# Altium integrated library ON Semi Signal Management Signal Switches.IntLib: 212 symbols (part 5 of 6)
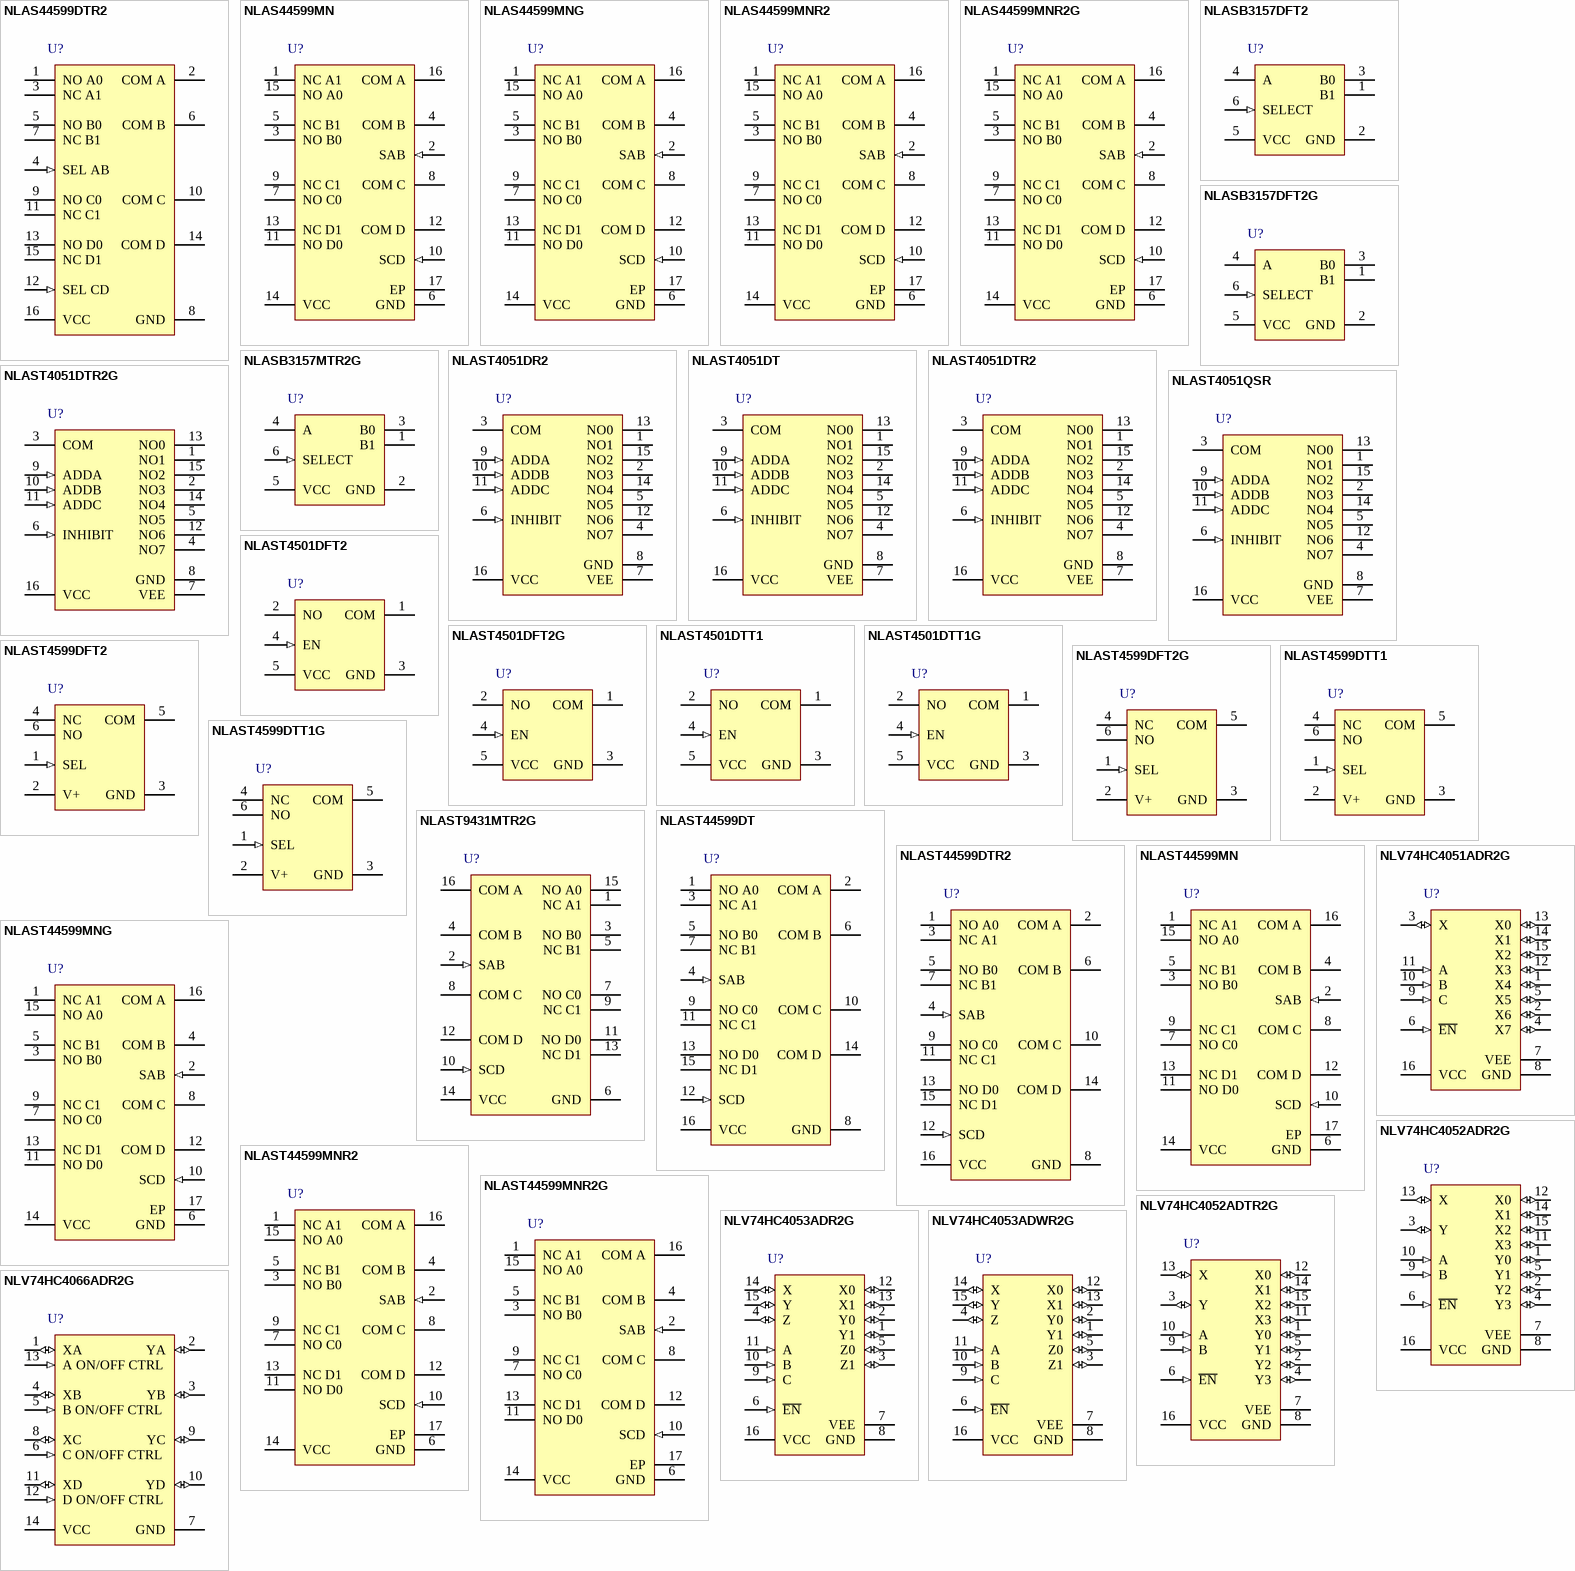
[diagram p10: symbols NLAS44599DTR2 to NLV74HC4066ADR2G]

## NLASB3157DFT2
designator U?
SPDT, 3 Ohm RON Switch, 1.65 to 5.5 V, -55 to 125 degC, 6-Pin SC-88, Tape and Reel; Manufacturer: On Semiconductor; PartNumber: NLASB3157DFT2; Icc Max (uA): 10; VCC Max (V): 5.5; VCC Min (V): 1.65; DatasheetVersion: Rev. 13; PackageVersion: Rev. Y, 12/2012; PackageReference: SC-88-6-419B-02; PackageDescription: 6-Pin Small Outline Transistor, Body 2 x 1.25 mm, Pitch 0.65 mm; Supplier 1: Digi-Key; Supplier Part Number 1: NLASB3157DFT2OSTR-ND; Supplier 2: Digi-Key; Supplier Part Number 2: NLASB3157DFT2OSCT-ND; Packing: Tape and Reel; RoHS: FALSE; Mounting Technology: Surface Mount; ComponentLink1Description: Manufacturer URL; ComponentLink1URL: http://www.onsemi.com/; ComponentLink2Description: Datasheet; ComponentLink2URL: http://www.onsemi.cn/pub_link/Collateral/NLASB3157-D.PDF; ComponentLink3Description: Package Specification; ComponentLink3URL: http://www.onsemi.com/pub_link/Collateral/419B-02.PDF
footprint ONSC-SC-88-6-419B-02_V (SOT23, 6-Leads, Body 2.2x1.35mm, Pitch 0.65mm)
pins: 1 B1, 2 GND (power), 3 B0, 4 A, 5 VCC (power), 6 SELECT (in)

## NLASB3157DFT2G
designator U?
SPDT, 3 Ohm RON Switch, 1.65 to 5.5 V, -55 to 125 degC, 6-Pin SC-88, Pb-Free, Tape and Reel; Manufacturer: On Semiconductor; PartNumber: NLASB3157DFT2G; Icc Max (uA): 10; VCC Max (V): 5.5; VCC Min (V): 1.65; DatasheetVersion: Rev. 13; PackageVersion: Rev. Y, 12/2012; PackageReference: SC-88-6-419B-02; PackageDescription: 6-Pin Small Outline Transistor, Body 2 x 1.25 mm, Pitch 0.65 mm; Supplier 1: Digi-Key; Supplier Part Number 1: NLASB3157DFT2GOSTR-ND; Supplier 2: Digi-Key; Supplier Part Number 2: NLASB3157DFT2GOSCT-ND; Supplier 3: Digi-Key; Supplier Part Number 3: NLASB3157DFT2GOSDKR-ND; Supplier 4: Farnell; Supplier Part Number 4: 2414052; Supplier 5: Newark; Supplier Part Number 5: 04R7851; Supplier 6: Newark; Supplier Part Number 6: 88H5054; Supplier 7: Mouser; Supplier Part Number 7: 863-NLASB3157DFT2G; Packing: Tape and Reel; RoHS: TRUE; Mounting Technology: Surface Mount; ComponentLink1Description: Manufacturer URL; ComponentLink1URL: http://www.onsemi.com/; ComponentLink2Description: Datasheet; ComponentLink2URL: http://www.onsemi.cn/pub_link/Collateral/NLASB3157-D.PDF; ComponentLink3Description: Package Specification; ComponentLink3URL: http://www.onsemi.com/pub_link/Collateral/419B-02.PDF
footprint ONSC-SC-88-6-419B-02_V (SOT23, 6-Leads, Body 2.2x1.35mm, Pitch 0.65mm)
pins: 1 B1, 2 GND (power), 3 B0, 4 A, 5 VCC (power), 6 SELECT (in)

## NLASB3157MTR2G
designator U?
SPDT, 3 Ohm RON Switch, 1.65 to 5.5 V, -55 to 125 degC, 6-Pin WDFN, Pb-Free, Tape and Reel; Manufacturer: On Semiconductor; PartNumber: NLASB3157MTR2G; Icc Max (uA): 10; VCC Max (V): 5.5; VCC Min (V): 1.65; DatasheetVersion: Rev. 13; PackageVersion: Rev. D, 08/2013; PackageReference: WDFN-6-506AS-01; PackageDescription: 6-Pin Small Outline No-Lead, Body 1.2 x 1 mm, Pitch 0.4 mm; Supplier 1: Digi-Key; Supplier Part Number 1: NLASB3157MTR2GOSTR-ND; Supplier 2: Digi-Key; Supplier Part Number 2: NLASB3157MTR2GOSCT-ND; Supplier 3: Digi-Key; Supplier Part Number 3: NLASB3157MTR2GOSDKR-ND; Supplier 4: Newark; Supplier Part Number 4: 02M9870; Supplier 5: Mouser; Supplier Part Number 5: 863-NLASB3157MTR2G; Packing: Tape and Reel; RoHS: TRUE; Mounting Technology: Surface Mount; ComponentLink1Description: Manufacturer URL; ComponentLink1URL: http://www.onsemi.com/; ComponentLink2Description: Datasheet; ComponentLink2URL: http://www.onsemi.cn/pub_link/Collateral/NLASB3157-D.PDF; ComponentLink3Description: Package Specification; ComponentLink3URL: http://www.onsemi.cn/pub_link/Collateral/506AS.PDF
footprint ONSC-WDFN-6-506AS-01_V (SON, 6-Leads, Body 1.2x1mm, Pitch 0.4mm)
pins: 1 B1, 2 GND (power), 3 B0, 4 A, 5 VCC (power), 6 SELECT (in)

## NLAST4051DR2
designator U?
Analog Multiplexer / Demultiplexer, TTL Compatible, Single-Pole, 8-Position Plus Common Off, 2.5 to 5.5 V, -55 to 125 degC, 16-Pin SOIC, Tape and Reel; Manufacturer: On Semiconductor; PartNumber: NLAST4051DR2; Icc Max (uA): 80; VCC Max (V): 5.5; VCC Min (V): 2.5; DatasheetVersion: Rev. 4; PackageVersion: Rev. J; PackageReference: SOIC-16-751B-05_J; PackageDescription: 16-Pin Small Outline Integrated Circuit, Body 9.9 x 3.9 mm, Pitch 1.27 mm; Supplier 1: Digi-Key; Supplier Part Number 1: NLAST4051DR2OSTR-ND; Supplier 2: Digi-Key; Supplier Part Number 2: NLAST4051DR2OSCT-ND; Supplier 3: Digi-Key; Supplier Part Number 3: NLAST4051DR2OSDKR-ND; Supplier 4: Mouser; Supplier Part Number 4: N/A; Packing: Tape and Reel; RoHS: FALSE; Mounting Technology: Surface Mount; ComponentLink1Description: Manufacturer URL; ComponentLink1URL: http://www.onsemi.com/; ComponentLink2Description: Datasheet; ComponentLink2URL: http://www.onsemi.com/pub_link/Collateral/NLAST4051-D.PDF; ComponentLink3Description: Package Specification; ComponentLink3URL: http://www.onsemi.com/pub_link/Collateral/MC74AC161-D.PDF
footprint ONSC-SOIC-16-751B-05_J_N (SOIC, 16-Leads, Body 10x4mm, Pitch 1.27mm, IPC Medium Density)
footprint ONSC-SOIC-16-751B-05_J_L (SOIC, 16-Leads, Body 10x4mm, Pitch 1.27mm, IPC High Density)
footprint ONSC-SOIC-16-751B-05_J_M (SOIC, 16-Leads, Body 10x4mm, Pitch 1.27mm, IPC Low Density)
pins: 1 NO1, 2 NO3, 3 COM, 4 NO7, 5 NO5, 6 INHIBIT (in), 7 VEE (power), 8 GND (power), 9 ADDA (in), 10 ADDB (in), 11 ADDC (in), 12 NO6, 13 NO0, 14 NO4, 15 NO2, 16 VCC (power)

## NLAST4051DT
designator U?
Analog Multiplexer / Demultiplexer, TTL Compatible, Single-Pole, 8-Position Plus Common Off, 2.5 to 5.5 V, -55 to 125 degC, 16-Pin TSSOP, Pb-Free, Tube; Manufacturer: On Semiconductor; PartNumber: NLAST4051DT; Icc Max (uA): 80; VCC Max (V): 5.5; VCC Min (V): 2.5; DatasheetVersion: Rev. 4; PackageVersion: Rev. A, 01/2005; PackageReference: TSSOP-16-948F-01_A; PackageDescription: 16-Pin Small Outline Package, Body 5 x 4.4 mm, Pitch 0.65 mm; Supplier 1: Mouser; Supplier Part Number 1: N/A; Packing: Tube; RoHS: TRUE; Mounting Technology: Surface Mount; ComponentLink1Description: Manufacturer URL; ComponentLink1URL: http://www.onsemi.com/; ComponentLink2Description: Datasheet; ComponentLink2URL: http://www.onsemi.com/pub_link/Collateral/NLAST4051-D.PDF; ComponentLink3Description: Package Specification; ComponentLink3URL: http://www.onsemi.cn/pub_link/Collateral/NB3N508S-D.PDF
footprint ONSC-TSSOP-16-948F-01_A_N (SOP, 16-Leads, Body 5x4.4mm, Pitch 0.65mm, IPC Medium Density)
footprint ONSC-TSSOP-16-948F-01_A_L (SOP, 16-Leads, Body 5x4.4mm, Pitch 0.65mm, IPC High Density)
footprint ONSC-TSSOP-16-948F-01_A_M (SOP, 16-Leads, Body 5x4.4mm, Pitch 0.65mm, IPC Low Density)
pins: 1 NO1, 2 NO3, 3 COM, 4 NO7, 5 NO5, 6 INHIBIT (in), 7 VEE (power), 8 GND (power), 9 ADDA (in), 10 ADDB (in), 11 ADDC (in), 12 NO6, 13 NO0, 14 NO4, 15 NO2, 16 VCC (power)

## NLAST4051DTR2
designator U?
Analog Multiplexer / Demultiplexer, TTL Compatible, Single-Pole, 8-Position Plus Common Off, 2.5 to 5.5 V, -55 to 125 degC, 16-Pin TSSOP, Pb-Free, Tape and Reel; Manufacturer: On Semiconductor; PartNumber: NLAST4051DTR2; Icc Max (uA): 80; VCC Max (V): 5.5; VCC Min (V): 2.5; DatasheetVersion: Rev. 4; PackageVersion: Rev. A, 01/2005; PackageReference: TSSOP-16-948F-01_A; PackageDescription: 16-Pin Small Outline Package, Body 5 x 4.4 mm, Pitch 0.65 mm; Supplier 1: Digi-Key; Supplier Part Number 1: NLAST4051DTR2OSTR-ND; Supplier 2: Digi-Key; Supplier Part Number 2: NLAST4051DTR2OSCT-ND; Supplier 3: Mouser; Supplier Part Number 3: 863-NLAST4051DTR2; Packing: Tape and Reel; RoHS: TRUE; Mounting Technology: Surface Mount; ComponentLink1Description: Manufacturer URL; ComponentLink1URL: http://www.onsemi.com/; ComponentLink2Description: Datasheet; ComponentLink2URL: http://www.onsemi.com/pub_link/Collateral/NLAST4051-D.PDF; ComponentLink3Description: Package Specification; ComponentLink3URL: http://www.onsemi.cn/pub_link/Collateral/NB3N508S-D.PDF
footprint ONSC-TSSOP-16-948F-01_A_N (SOP, 16-Leads, Body 5x4.4mm, Pitch 0.65mm, IPC Medium Density)
footprint ONSC-TSSOP-16-948F-01_A_L (SOP, 16-Leads, Body 5x4.4mm, Pitch 0.65mm, IPC High Density)
footprint ONSC-TSSOP-16-948F-01_A_M (SOP, 16-Leads, Body 5x4.4mm, Pitch 0.65mm, IPC Low Density)
pins: 1 NO1, 2 NO3, 3 COM, 4 NO7, 5 NO5, 6 INHIBIT (in), 7 VEE (power), 8 GND (power), 9 ADDA (in), 10 ADDB (in), 11 ADDC (in), 12 NO6, 13 NO0, 14 NO4, 15 NO2, 16 VCC (power)

## NLAST4051DTR2G
designator U?
Analog Multiplexer / Demultiplexer, TTL Compatible, Single-Pole, 8-Position Plus Common Off, 2.5 to 5.5 V, -55 to 125 degC, 16-Pin TSSOP, Pb-Free, Tape and Reel; Manufacturer: On Semiconductor; PartNumber: NLAST4051DTR2G; Icc Max (uA): 80; VCC Max (V): 5.5; VCC Min (V): 2.5; DatasheetVersion: Rev. 4; PackageVersion: Rev. A, 01/2005; PackageReference: TSSOP-16-948F-01_A; PackageDescription: 16-Pin Small Outline Package, Body 5 x 4.4 mm, Pitch 0.65 mm; Supplier 1: Digi-Key; Supplier Part Number 1: NLAST4051DTR2GOSTR-ND; Supplier 2: Digi-Key; Supplier Part Number 2: NLAST4051DTR2GOSCT-ND; Supplier 3: Digi-Key; Supplier Part Number 3: NLAST4051DTR2GOSDKR-ND; Supplier 4: Mouser; Supplier Part Number 4: 863-NLAST4051DTR2G; Packing: Tape and Reel; RoHS: TRUE; Mounting Technology: Surface Mount; ComponentLink1Description: Manufacturer URL; ComponentLink1URL: http://www.onsemi.com/; ComponentLink2Description: Datasheet; ComponentLink2URL: http://www.onsemi.com/pub_link/Collateral/NLAST4051-D.PDF; ComponentLink3Description: Package Specification; ComponentLink3URL: http://www.onsemi.cn/pub_link/Collateral/NB3N508S-D.PDF
footprint ONSC-TSSOP-16-948F-01_A_N (SOP, 16-Leads, Body 5x4.4mm, Pitch 0.65mm, IPC Medium Density)
footprint ONSC-TSSOP-16-948F-01_A_L (SOP, 16-Leads, Body 5x4.4mm, Pitch 0.65mm, IPC High Density)
footprint ONSC-TSSOP-16-948F-01_A_M (SOP, 16-Leads, Body 5x4.4mm, Pitch 0.65mm, IPC Low Density)
pins: 1 NO1, 2 NO3, 3 COM, 4 NO7, 5 NO5, 6 INHIBIT (in), 7 VEE (power), 8 GND (power), 9 ADDA (in), 10 ADDB (in), 11 ADDC (in), 12 NO6, 13 NO0, 14 NO4, 15 NO2, 16 VCC (power)

## NLAST4051QSR
designator U?
Analog Multiplexer / Demultiplexer, TTL Compatible, Single-Pole, 8-Position Plus Common Off, 2.5 to 5.5 V, -55 to 125 degC, 16-Pin QSOP, Tape and Reel; Manufacturer: On Semiconductor; PartNumber: NLAST4051QSR; Icc Max (uA): 80; VCC Max (V): 5.5; VCC Min (V): 2.5; DatasheetVersion: Rev. 4; PackageVersion: Rev. O; PackageReference: QSOP-16-492-01; PackageDescription: 16-Pin Small Outline Package, Body 4.89 x 3.9 mm, Pitch 0.64 mm; Supplier 1: Digi-Key; Supplier Part Number 1: NLAST4051QSROSTR-ND; Supplier 2: Digi-Key; Supplier Part Number 2: NLAST4051QSROSCT-ND; Supplier 3: Mouser; Supplier Part Number 3: N/A; Packing: Tape and Reel; RoHS: FALSE; Mounting Technology: Surface Mount; ComponentLink1Description: Manufacturer URL; ComponentLink1URL: http://www.onsemi.com/; ComponentLink2Description: Datasheet; ComponentLink2URL: http://www.onsemi.com/pub_link/Collateral/NLAST4051-D.PDF; ComponentLink3Description: Package Specification; ComponentLink3URL: http://www.onsemi.com/pub_link/Collateral/NLAS4051-D.PDF
footprint ONSC-QSOP-16-492-01_O_N (SOP, 16-Leads, Body 5x4mm, Pitch 0.64mm, IPC Medium Density)
footprint ONSC-QSOP-16-492-01_O_L (SOP, 16-Leads, Body 5x4mm, Pitch 0.64mm, IPC High Density)
footprint ONSC-QSOP-16-492-01_O_M (SOP, 16-Leads, Body 5x4mm, Pitch 0.64mm, IPC Low Density)
pins: 1 NO1, 2 NO3, 3 COM, 4 NO7, 5 NO5, 6 INHIBIT (in), 7 VEE (power), 8 GND (power), 9 ADDA (in), 10 ADDB (in), 11 ADDC (in), 12 NO6, 13 NO0, 14 NO4, 15 NO2, 16 VCC (power)

## NLAST4501DFT2
designator U?
Single SPST Analog Switch, 2 to 5.5 V, -55 to 125 degC, 5-Pin SC-88A, Tape and Reel; Manufacturer: On Semiconductor; PartNumber: NLAST4501DFT2; Icc Max (uA): 2; VCC Max (V): 5.5; DatasheetVersion: Rev. 4; PackageVersion: Rev. L, 01/2013; PackageReference: SC-88A-5-419A-02; PackageDescription: 5-Pin Small Outline Transistor, Body 2 x 1.25 mm, Pitch 0.65 mm; Supplier 1: Digi-Key; Supplier Part Number 1: NLAST4501DFT2OS-ND; Packing: Tape and Reel; RoHS: FALSE; VCC Min (V): 2; Mounting Technology: Surface Mount; ComponentLink1Description: Manufacturer URL; ComponentLink1URL: http://www.onsemi.com/; ComponentLink2Description: Datasheet; ComponentLink2URL: http://www.onsemi.com/pub_link/Collateral/NLAST4501-D.PDF; ComponentLink3Description: Package Specification; ComponentLink3URL: http://www.onsemi.cn/pub_link/Collateral/419A-02.PDF
footprint ONSC-SC-88A-5-419A-02_V (SOT23, 5-Leads, Body 2.2x1.35mm, Pitch 0.65mm)
pins: 1 COM, 2 NO, 3 GND (power), 4 EN (in), 5 VCC (power)

## NLAST4501DFT2G
designator U?
Single SPST Analog Switch, 2 to 5.5 V, -55 to 125 degC, 5-Pin SC-88A, Pb-Free, Tape and Reel; Manufacturer: On Semiconductor; PartNumber: NLAST4501DFT2G; Icc Max (uA): 2; VCC Max (V): 5.5; DatasheetVersion: Rev. 4; PackageVersion: Rev. L, 01/2013; PackageReference: SC-88A-5-419A-02; PackageDescription: 5-Pin Small Outline Transistor, Body 2 x 1.25 mm, Pitch 0.65 mm; Supplier 1: Digi-Key; Supplier Part Number 1: NLAST4501DFT2GOSTR-ND; Supplier 2: Digi-Key; Supplier Part Number 2: NLAST4501DFT2GOSCT-ND; Supplier 3: Newark; Supplier Part Number 3: 67H7121; Supplier 4: Mouser; Supplier Part Number 4: 863-NLAST4501DFT2G; Packing: Tape and Reel; RoHS: TRUE; VCC Min (V): 2; Mounting Technology: Surface Mount; ComponentLink1Description: Manufacturer URL; ComponentLink1URL: http://www.onsemi.com/; ComponentLink2Description: Datasheet; ComponentLink2URL: http://www.onsemi.com/pub_link/Collateral/NLAST4501-D.PDF; ComponentLink3Description: Package Specification; ComponentLink3URL: http://www.onsemi.cn/pub_link/Collateral/419A-02.PDF
footprint ONSC-SC-88A-5-419A-02_V (SOT23, 5-Leads, Body 2.2x1.35mm, Pitch 0.65mm)
pins: 1 COM, 2 NO, 3 GND (power), 4 EN (in), 5 VCC (power)

## NLAST4501DTT1
designator U?
Single SPST Analog Switch, 2 to 5.5 V, -55 to 125 degC, 5-Pin TSOP, Tape and Reel; Manufacturer: On Semiconductor; PartNumber: NLAST4501DTT1; Icc Max (uA): 2; VCC Max (V): 5.5; DatasheetVersion: Rev. 4; PackageVersion: Rev. K, 04/2013; PackageReference: TSOP-5-483-02; PackageDescription: 5-Pin Small Outline Package, Body 3 x 1.5 mm, Pitch 0.95 mm; Supplier 1: Digi-Key; Supplier Part Number 1: NLAST4501DTT1OS-ND; Packing: Tape and Reel; RoHS: FALSE; VCC Min (V): 2; Mounting Technology: Surface Mount; ComponentLink1Description: Manufacturer URL; ComponentLink1URL: http://www.onsemi.com/; ComponentLink2Description: Datasheet; ComponentLink2URL: http://www.onsemi.com/pub_link/Collateral/NLAST4501-D.PDF; ComponentLink3Description: Package Specification; ComponentLink3URL: http://www.onsemi.com/pub_link/Collateral/483.PDF
footprint ONSC-TSOP-5-483-02_V (SOP, 5-Leads, Body 3x1.5mm, Pitch 0.95mm)
pins: 1 COM, 2 NO, 3 GND (power), 4 EN (in), 5 VCC (power)

## NLAST4501DTT1G
designator U?
Single SPST Analog Switch, 2 to 5.5 V, -55 to 125 degC, 5-Pin TSOP, Pb-Free, Tape and Reel; Manufacturer: On Semiconductor; PartNumber: NLAST4501DTT1G; Icc Max (uA): 2; VCC Max (V): 5.5; DatasheetVersion: Rev. 4; PackageVersion: Rev. K, 04/2013; PackageReference: TSOP-5-483-02; PackageDescription: 5-Pin Small Outline Package, Body 3 x 1.5 mm, Pitch 0.95 mm; Supplier 1: Digi-Key; Supplier Part Number 1: NLAST4501DTT1GOSTR-ND; Supplier 2: Digi-Key; Supplier Part Number 2: NLAST4501DTT1GOSCT-ND; Supplier 3: Newark; Supplier Part Number 3: 71J6941; Supplier 4: Mouser; Supplier Part Number 4: 863-NLAST4501DTT1G; Packing: Tape and Reel; RoHS: TRUE; VCC Min (V): 2; Mounting Technology: Surface Mount; ComponentLink1Description: Manufacturer URL; ComponentLink1URL: http://www.onsemi.com/; ComponentLink2Description: Datasheet; ComponentLink2URL: http://www.onsemi.com/pub_link/Collateral/NLAST4501-D.PDF; ComponentLink3Description: Package Specification; ComponentLink3URL: http://www.onsemi.com/pub_link/Collateral/483.PDF
footprint ONSC-TSOP-5-483-02_V (SOP, 5-Leads, Body 3x1.5mm, Pitch 0.95mm)
pins: 1 COM, 2 NO, 3 GND (power), 4 EN (in), 5 VCC (power)

## NLAST4599DFT2
designator U?
Low Voltage Single Supply SPDT Analog Switch, 2 to 5.5 V, -55 to 125 degC, 6-Pin SC70, Tape and Reel; Manufacturer: On Semiconductor; PartNumber: NLAST4599DFT2; Icc Max (uA): 2; VCC Max (V): 5.5; DatasheetVersion: Rev. 8; PackageVersion: Rev. W, 01/2006; PackageReference: SC70-6-419B-02_W; PackageDescription: 6-Pin Small Outline Transistor, Body 2 x 1.25 mm, Pitch 0.65 mm; Supplier 1: Digi-Key; Supplier Part Number 1: NLAST4599DFT2OSTR-ND; Supplier 2: Digi-Key; Supplier Part Number 2: NLAST4599DFT2OSCT-ND; Packing: Tape and Reel; RoHS: FALSE; VCC Min (V): 2; Mounting Technology: Surface Mount; ComponentLink1Description: Manufacturer URL; ComponentLink1URL: http://www.onsemi.com/; ComponentLink2Description: Datasheet; ComponentLink2URL: http://www.onsemi.com/pub_link/Collateral/NLAST4599-D.PDF; ComponentLink3Description: Package Specification; ComponentLink3URL: http://www.onsemi.com/pub_link/Collateral/SMF05C-D.PDF
footprint ONSC-SC70-6-419B-02_W_V (SOT23, 6-Leads, Body 2.2x1.35mm, Pitch 0.65mm)
pins: 1 SEL (in), 2 V+ (power), 3 GND (power), 4 NC, 5 COM, 6 NO

## NLAST4599DFT2G
designator U?
Low Voltage Single Supply SPDT Analog Switch, 2 to 5.5 V, -55 to 125 degC, 6-Pin SC70, Pb-Free, Tape and Reel; Manufacturer: On Semiconductor; PartNumber: NLAST4599DFT2G; Icc Max (uA): 2; VCC Max (V): 5.5; DatasheetVersion: Rev. 8; PackageVersion: Rev. W, 01/2006; PackageReference: SC70-6-419B-02_W; PackageDescription: 6-Pin Small Outline Transistor, Body 2 x 1.25 mm, Pitch 0.65 mm; Supplier 1: Digi-Key; Supplier Part Number 1: NLAST4599DFT2GOSTR-ND; Supplier 2: Digi-Key; Supplier Part Number 2: NLAST4599DFT2GOSCT-ND; Supplier 3: Digi-Key; Supplier Part Number 3: NLAST4599DFT2GOSDKR-ND; Supplier 4: Farnell; Supplier Part Number 4: 2318469; Supplier 5: Newark; Supplier Part Number 5: 38X5945; Supplier 6: Newark; Supplier Part Number 6: 90W0798; Supplier 7: Newark; Supplier Part Number 7: 83H7726; Supplier 8: Mouser; Supplier Part Number 8: 863-NLAST4599DFT2G; Packing: Tape and Reel; RoHS: TRUE; VCC Min (V): 2; Mounting Technology: Surface Mount; ComponentLink1Description: Manufacturer URL; ComponentLink1URL: http://www.onsemi.com/; ComponentLink2Description: Datasheet; ComponentLink2URL: http://www.onsemi.com/pub_link/Collateral/NLAST4599-D.PDF; ComponentLink3Description: Package Specification; ComponentLink3URL: http://www.onsemi.com/pub_link/Collateral/SMF05C-D.PDF
footprint ONSC-SC70-6-419B-02_W_V (SOT23, 6-Leads, Body 2.2x1.35mm, Pitch 0.65mm)
pins: 1 SEL (in), 2 V+ (power), 3 GND (power), 4 NC, 5 COM, 6 NO

## NLAST4599DTT1
designator U?
Low Voltage Single Supply SPDT Analog Switch, 2 to 5.5 V, -55 to 125 degC, 6-Pin TSOP, Tape and Reel; Manufacturer: On Semiconductor; PartNumber: NLAST4599DTT1; Icc Max (uA): 2; VCC Max (V): 5.5; DatasheetVersion: Rev. 8; PackageVersion: Rev. T, 02/2008; PackageReference: TSOP-6-318G-02_T; PackageDescription: 6-Pin Small Outline Package, Body 1.5 x 3 mm, Pitch 0.95 mm; Packing: Tape and Reel; RoHS: FALSE; VCC Min (V): 2; Mounting Technology: Surface Mount; ComponentLink1Description: Manufacturer URL; ComponentLink1URL: http://www.onsemi.com/; ComponentLink2Description: Datasheet; ComponentLink2URL: http://www.onsemi.com/pub_link/Collateral/NLAST4599-D.PDF; ComponentLink3Description: Package Specification; ComponentLink3URL: http://www.onsemi.com/pub_link/Collateral/NSS20300MR6T1G-D.PDF
footprint ONSC-TSOP-6-318G-02_T_V (SOP, 6-Leads, Body 3x1.5mm, Pitch 0.95mm)
pins: 1 SEL (in), 2 V+ (power), 3 GND (power), 4 NC, 5 COM, 6 NO

## NLAST4599DTT1G
designator U?
Low Voltage Single Supply SPDT Analog Switch, 2 to 5.5 V, -55 to 125 degC, 6-Pin TSOP, Pb-Free, Tape and Reel; Manufacturer: On Semiconductor; PartNumber: NLAST4599DTT1G; Icc Max (uA): 2; VCC Max (V): 5.5; DatasheetVersion: Rev. 8; PackageVersion: Rev. T, 02/2008; PackageReference: TSOP-6-318G-02_T; PackageDescription: 6-Pin Small Outline Package, Body 1.5 x 3 mm, Pitch 0.95 mm; Supplier 1: Digi-Key; Supplier Part Number 1: NLAST4599DTT1GOSTR-ND; Supplier 2: Digi-Key; Supplier Part Number 2: NLAST4599DTT1GOSCT-ND; Supplier 3: Digi-Key; Supplier Part Number 3: NLAST4599DTT1GOSDKR-ND; Supplier 4: Farnell; Supplier Part Number 4: 2295992; Supplier 5: Newark; Supplier Part Number 5: 26K5050; Supplier 6: Mouser; Supplier Part Number 6: 863-NLAST4599DTT1G; Packing: Tape and Reel; RoHS: TRUE; VCC Min (V): 2; Mounting Technology: Surface Mount; ComponentLink1Description: Manufacturer URL; ComponentLink1URL: http://www.onsemi.com/; ComponentLink2Description: Datasheet; ComponentLink2URL: http://www.onsemi.com/pub_link/Collateral/NLAST4599-D.PDF; ComponentLink3Description: Package Specification; ComponentLink3URL: http://www.onsemi.com/pub_link/Collateral/NSS20300MR6T1G-D.PDF
footprint ONSC-TSOP-6-318G-02_T_V (SOP, 6-Leads, Body 3x1.5mm, Pitch 0.95mm)
pins: 1 SEL (in), 2 V+ (power), 3 GND (power), 4 NC, 5 COM, 6 NO

## NLAST9431MTR2G
designator U?
Low Voltage Single Supply Dual DPDT Analog Switch, 2 to 5.5 V, -55 to 125 degC, 16-Pin WQFN, Pb-Free, Tape and Reel; Manufacturer: On Semiconductor; PartNumber: NLAST9431MTR2G; Icc Max (uA): 8; VCC Max (V): 5.5; VCC Min (V): 2; DatasheetVersion: Rev. 2; PackageVersion: Rev. B, 06/2008; PackageReference: WQFN-16-488AP-01; PackageDescription: 16-Pin Quad Flat No-Lead, Body 1.8 x 2.6 mm, Pitch 0.4 mm; Supplier 1: Digi-Key; Supplier Part Number 1: NLAST9431MTR2GOSTR-ND; Supplier 2: Digi-Key; Supplier Part Number 2: NLAST9431MTR2GOSCT-ND; Supplier 3: Mouser; Supplier Part Number 3: 863-NLAST9431MTR2G; Packing: Tape and Reel; RoHS: TRUE; Mounting Technology: Surface Mount; ComponentLink1Description: Manufacturer URL; ComponentLink1URL: http://www.onsemi.com/; ComponentLink2Description: Datasheet; ComponentLink2URL: http://www.onsemi.com/pub_link/Collateral/NLAST9431-D.PDF; ComponentLink3Description: Package Specification; ComponentLink3URL: http://www.onsemi.cn/pub_link/Collateral/488AP.PDF
footprint ONSC-WQFN-16-488AP-01_V (QFN, 16-Leads, Body 2.6x1.8mm, Pitch 0.4mm)
pins: 1 NC A1, 2 SAB (in), 3 NO B0, 4 COM B, 5 NC B1, 6 GND (power), 7 NO C0, 8 COM C, 9 NC C1, 10 SCD (in), 11 NO D0, 12 COM D, 13 NC D1, 14 VCC (power), 15 NO A0, 16 COM A

## NLAST44599DT
designator U?
Low Voltage Single Supply Dual DPDT Analog Switch, 2 to 5.5 V, -55 to 125 degC, 16-Pin TSSOP, Pb-Free, Tube; Manufacturer: On Semiconductor; PartNumber: NLAST44599DT; Icc Max (uA): 8; VCC Max (V): 5.5; VCC Min (V): 2; DatasheetVersion: Rev. 9; PackageVersion: Rev. B, 10/2006; PackageReference: TSSOP-16-948F-01; PackageDescription: 16-Pin Small Outline Package, Body 5 x 4.4 mm, Pitch 0.65 mm; Supplier 1: Digi-Key; Supplier Part Number 1: NLAST44599DT-ND; Supplier 2: Mouser; Supplier Part Number 2: 863-NLAST44599DT; Packing: Tube; RoHS: TRUE; Mounting Technology: Surface Mount; ComponentLink1Description: Manufacturer URL; ComponentLink1URL: http://www.onsemi.com/; ComponentLink2Description: Datasheet; ComponentLink2URL: http://www.onsemi.com/pub_link/Collateral/NLAST44599-D.PDF; ComponentLink3Description: Package Specification; ComponentLink3URL: http://www.onsemi.com/pub_link/Collateral/948F-01.PDF
footprint ONSC-TSSOP-16-948F-01_V (SOP, 16-Leads, Body 5.1x4.5mm, Pitch 0.65mm)
pins: 1 NO A0, 2 COM A, 3 NC A1, 4 SAB (in), 5 NO B0, 6 COM B, 7 NC B1, 8 GND (power), 9 NO C0, 10 COM C, 11 NC C1, 12 SCD (in), 13 NO D0, 14 COM D, 15 NC D1, 16 VCC (power)

## NLAST44599DTR2
designator U?
Low Voltage Single Supply Dual DPDT Analog Switch, 2 to 5.5 V, -55 to 125 degC, 16-Pin TSSOP, Pb-Free, Tape and Reel; Manufacturer: On Semiconductor; PartNumber: NLAST44599DTR2; Icc Max (uA): 8; VCC Max (V): 5.5; VCC Min (V): 2; DatasheetVersion: Rev. 9; PackageVersion: Rev. B, 10/2006; PackageReference: TSSOP-16-948F-01; PackageDescription: 16-Pin Small Outline Package, Body 5 x 4.4 mm, Pitch 0.65 mm; Supplier 1: Digi-Key; Supplier Part Number 1: NLAST44599DTROSTR-ND; Supplier 2: Digi-Key; Supplier Part Number 2: NLAST44599DTROSCT-ND; Supplier 3: Mouser; Supplier Part Number 3: 863-NLAST44599DTR2; Packing: Tape and Reel; RoHS: TRUE; Mounting Technology: Surface Mount; ComponentLink1Description: Manufacturer URL; ComponentLink1URL: http://www.onsemi.com/; ComponentLink2Description: Datasheet; ComponentLink2URL: http://www.onsemi.com/pub_link/Collateral/NLAST44599-D.PDF; ComponentLink3Description: Package Specification; ComponentLink3URL: http://www.onsemi.com/pub_link/Collateral/948F-01.PDF
footprint ONSC-TSSOP-16-948F-01_V (SOP, 16-Leads, Body 5.1x4.5mm, Pitch 0.65mm)
pins: 1 NO A0, 2 COM A, 3 NC A1, 4 SAB (in), 5 NO B0, 6 COM B, 7 NC B1, 8 GND (power), 9 NO C0, 10 COM C, 11 NC C1, 12 SCD (in), 13 NO D0, 14 COM D, 15 NC D1, 16 VCC (power)

## NLAST44599MN
designator U?
Low Voltage Single Supply Dual DPDT Analog Switch, 2 to 5.5 V, -55 to 125 degC, 16-Pin QFN, Tube; Manufacturer: On Semiconductor; PartNumber: NLAST44599MN; Icc Max (uA): 8; VCC Max (V): 5.5; VCC Min (V): 2; DatasheetVersion: Rev. 9; PackageVersion: Rev. D, 06/2008; PackageReference: QFN-16-485G-01_D; PackageDescription: 16-Pin Quad Flat No-Lead, Body 3 x 3 mm, Pitch 0.5 mm; Supplier 1: Digi-Key; Supplier Part Number 1: NLAST44599MN-ND; Packing: Tube; RoHS: FALSE; Mounting Technology: Surface Mount; ComponentLink1Description: Manufacturer URL; ComponentLink1URL: http://www.onsemi.com/; ComponentLink2Description: Datasheet; ComponentLink2URL: http://www.onsemi.com/pub_link/Collateral/NLAST44599-D.PDF; ComponentLink3Description: Package Specification; ComponentLink3URL: http://www.onsemi.cn/pub_link/Collateral/NB4L52-D.PDF
footprint ONSC-QFN-16-485G-01_D_V (QFN, 16-Leads, Body 3x3mm, Pitch 0.5mm, Thermal Pad 1.5x1.5mm)
pins: 1 NC A1, 2 SAB (in), 3 NO B0, 4 COM B, 5 NC B1, 6 GND (power), 7 NO C0, 8 COM C, 9 NC C1, 10 SCD (in), 11 NO D0, 12 COM D, 13 NC D1, 14 VCC (power), 15 NO A0, 16 COM A, 17 EP

## NLAST44599MNG
designator U?
Low Voltage Single Supply Dual DPDT Analog Switch, 2 to 5.5 V, -55 to 125 degC, 16-Pin QFN, Pb-Free, Tube; Manufacturer: On Semiconductor; PartNumber: NLAST44599MNG; Icc Max (uA): 8; VCC Max (V): 5.5; VCC Min (V): 2; DatasheetVersion: Rev. 9; PackageVersion: Rev. D, 06/2008; PackageReference: QFN-16-485G-01_D; PackageDescription: 16-Pin Quad Flat No-Lead, Body 3 x 3 mm, Pitch 0.5 mm; Supplier 1: Digi-Key; Supplier Part Number 1: NLAST44599MNG-ND; Supplier 2: Mouser; Supplier Part Number 2: 863-NLAST44599MNG; Packing: Tube; RoHS: TRUE; Mounting Technology: Surface Mount; ComponentLink1Description: Manufacturer URL; ComponentLink1URL: http://www.onsemi.com/; ComponentLink2Description: Datasheet; ComponentLink2URL: http://www.onsemi.com/pub_link/Collateral/NLAST44599-D.PDF; ComponentLink3Description: Package Specification; ComponentLink3URL: http://www.onsemi.cn/pub_link/Collateral/NB4L52-D.PDF
footprint ONSC-QFN-16-485G-01_D_V (QFN, 16-Leads, Body 3x3mm, Pitch 0.5mm, Thermal Pad 1.5x1.5mm)
pins: 1 NC A1, 2 SAB (in), 3 NO B0, 4 COM B, 5 NC B1, 6 GND (power), 7 NO C0, 8 COM C, 9 NC C1, 10 SCD (in), 11 NO D0, 12 COM D, 13 NC D1, 14 VCC (power), 15 NO A0, 16 COM A, 17 EP

## NLAST44599MNR2
designator U?
Low Voltage Single Supply Dual DPDT Analog Switch, 2 to 5.5 V, -55 to 125 degC, 16-Pin QFN, Tape and Reel; Manufacturer: On Semiconductor; PartNumber: NLAST44599MNR2; Icc Max (uA): 8; VCC Max (V): 5.5; VCC Min (V): 2; DatasheetVersion: Rev. 9; PackageVersion: Rev. D, 06/2008; PackageReference: QFN-16-485G-01_D; PackageDescription: 16-Pin Quad Flat No-Lead, Body 3 x 3 mm, Pitch 0.5 mm; Supplier 1: Digi-Key; Supplier Part Number 1: NLAST44599MNROSTR-ND; Supplier 2: Digi-Key; Supplier Part Number 2: NLAST44599MNROSCT-ND; Supplier 3: Digi-Key; Supplier Part Number 3: NLAST44599MNROSDKR-ND; Packing: Tape and Reel; RoHS: FALSE; Mounting Technology: Surface Mount; ComponentLink1Description: Manufacturer URL; ComponentLink1URL: http://www.onsemi.com/; ComponentLink2Description: Datasheet; ComponentLink2URL: http://www.onsemi.com/pub_link/Collateral/NLAST44599-D.PDF; ComponentLink3Description: Package Specification; ComponentLink3URL: http://www.onsemi.cn/pub_link/Collateral/NB4L52-D.PDF
footprint ONSC-QFN-16-485G-01_D_V (QFN, 16-Leads, Body 3x3mm, Pitch 0.5mm, Thermal Pad 1.5x1.5mm)
pins: 1 NC A1, 2 SAB (in), 3 NO B0, 4 COM B, 5 NC B1, 6 GND (power), 7 NO C0, 8 COM C, 9 NC C1, 10 SCD (in), 11 NO D0, 12 COM D, 13 NC D1, 14 VCC (power), 15 NO A0, 16 COM A, 17 EP

## NLAST44599MNR2G
designator U?
Low Voltage Single Supply Dual DPDT Analog Switch, 2 to 5.5 V, -55 to 125 degC, 16-Pin QFN, Pb-Free, Tape and Reel; Manufacturer: On Semiconductor; PartNumber: NLAST44599MNR2G; Icc Max (uA): 8; VCC Max (V): 5.5; VCC Min (V): 2; DatasheetVersion: Rev. 9; PackageVersion: Rev. D, 06/2008; PackageReference: QFN-16-485G-01_D; PackageDescription: 16-Pin Quad Flat No-Lead, Body 3 x 3 mm, Pitch 0.5 mm; Supplier 1: Digi-Key; Supplier Part Number 1: NLAST44599MNR2GOSTR-ND; Supplier 2: Digi-Key; Supplier Part Number 2: NLAST44599MNR2GOSCT-ND; Supplier 3: Mouser; Supplier Part Number 3: 863-NLAST44599MNR2G; Packing: Tape and Reel; RoHS: TRUE; Mounting Technology: Surface Mount; ComponentLink1Description: Manufacturer URL; ComponentLink1URL: http://www.onsemi.com/; ComponentLink2Description: Datasheet; ComponentLink2URL: http://www.onsemi.com/pub_link/Collateral/NLAST44599-D.PDF; ComponentLink3Description: Package Specification; ComponentLink3URL: http://www.onsemi.cn/pub_link/Collateral/NB4L52-D.PDF
footprint ONSC-QFN-16-485G-01_D_V (QFN, 16-Leads, Body 3x3mm, Pitch 0.5mm, Thermal Pad 1.5x1.5mm)
pins: 1 NC A1, 2 SAB (in), 3 NO B0, 4 COM B, 5 NC B1, 6 GND (power), 7 NO C0, 8 COM C, 9 NC C1, 10 SCD (in), 11 NO D0, 12 COM D, 13 NC D1, 14 VCC (power), 15 NO A0, 16 COM A, 17 EP

## NLV74HC4051ADR2G
designator U?
Analog Multiplexer / Demultiplexer, High-Performance Silicon-Gate CMOS, 2 to 12 V, -55 to 125 degC, 16-Pin SOIC, Pb-Free, Tape and Reel; Manufacturer: On Semiconductor; PartNumber: NLV74HC4051ADR2G; Icc Max (uA): 80; VCC Max (V): 12; VCC Min (V): 2; DatasheetVersion: Rev. 6; PackageVersion: Rev. K, 12/2006; PackageReference: SOIC-16-751B-05; PackageDescription: 16-Pin Small Outline Integrated Circuit, Body 9.9 x 3.9 mm, Pitch 1.27 mm; Supplier 1: Digi-Key; Supplier Part Number 1: NLV74HC4051ADR2G-ND; Supplier 2: Mouser; Supplier Part Number 2: 863-NLV74HC4051ADR2G; Packing: Tape and Reel; RoHS: TRUE; Mounting Technology: Surface Mount; ComponentLink1Description: Manufacturer URL; ComponentLink1URL: http://www.onsemi.com/; ComponentLink2Description: Datasheet; ComponentLink2URL: http://www.onsemi.com/pub_link/Collateral/MC74HC4051A-D.PDF; ComponentLink3Description: Package Specification; ComponentLink3URL: http://www.onsemi.com/pub_link/Collateral/751B-05.PDF
footprint ONSC-SOIC-16-751B-05_V (SOIC, 16-Leads, Body 10x4mm, Pitch 1.27mm)
pins: 1 X4 (io), 2 X6 (io), 3 X (io), 4 X7 (io), 5 X5 (io), 6 ~{EN} (in), 7 VEE (power), 8 GND (power), 9 C (in), 10 B (in), 11 A (in), 12 X3 (io), 13 X0 (io), 14 X1 (io), 15 X2 (io), 16 VCC (power)

## NLV74HC4052ADR2G
designator U?
Analog Multiplexer / Demultiplexer, High-Performance Silicon-Gate CMOS, 2 to 12 V, -55 to 125 degC, 16-Pin SOIC, Pb-Free, Tape and Reel; Manufacturer: On Semiconductor; PartNumber: NLV74HC4052ADR2G; Icc Max (uA): 80; VCC Max (V): 12; VCC Min (V): 2; DatasheetVersion: Rev. 6; PackageVersion: Rev. K, 12/2006; PackageReference: SOIC-16-751B-05; PackageDescription: 16-Pin Small Outline Integrated Circuit, Body 9.9 x 3.9 mm, Pitch 1.27 mm; Supplier 1: Digi-Key; Supplier Part Number 1: NLV74HC4052ADR2G-ND; Supplier 2: Mouser; Supplier Part Number 2: 863-NLV74HC4052ADR2G; Packing: Tape and Reel; RoHS: TRUE; Mounting Technology: Surface Mount; ComponentLink1Description: Manufacturer URL; ComponentLink1URL: http://www.onsemi.com/; ComponentLink2Description: Datasheet; ComponentLink2URL: http://www.onsemi.com/pub_link/Collateral/MC74HC4051A-D.PDF; ComponentLink3Description: Package Specification; ComponentLink3URL: http://www.onsemi.com/pub_link/Collateral/751B-05.PDF
footprint ONSC-SOIC-16-751B-05_V (SOIC, 16-Leads, Body 10x4mm, Pitch 1.27mm)
pins: 1 Y0 (io), 2 Y2 (io), 3 Y (io), 4 Y3 (io), 5 Y1 (io), 6 ~{EN} (in), 7 VEE (power), 8 GND (power), 9 B (in), 10 A (in), 11 X3 (io), 12 X0 (io), 13 X (io), 14 X1 (io), 15 X2 (io), 16 VCC (power)

## NLV74HC4052ADTR2G
designator U?
Analog Multiplexer / Demultiplexer, High-Performance Silicon-Gate CMOS, 2 to 12 V, -55 to 125 degC, 16-Pin TSSOP, Pb-Free, Tape and Reel; Manufacturer: On Semiconductor; PartNumber: NLV74HC4052ADTR2G; Icc Max (uA): 80; VCC Max (V): 12; VCC Min (V): 2; DatasheetVersion: Rev. 6; PackageVersion: Rev. B, 10/2006; PackageReference: TSSOP-16-948F-01; PackageDescription: 16-Pin Small Outline Package, Body 5 x 4.4 mm, Pitch 0.65 mm; Packing: Tape and Reel; RoHS: TRUE; Mounting Technology: Surface Mount; ComponentLink1Description: Manufacturer URL; ComponentLink1URL: http://www.onsemi.com/; ComponentLink2Description: Datasheet; ComponentLink2URL: http://www.onsemi.com/pub_link/Collateral/MC74HC4051A-D.PDF; ComponentLink3Description: Package Specification; ComponentLink3URL: http://www.onsemi.com/pub_link/Collateral/948F-01.PDF
footprint ONSC-TSSOP-16-948F-01_V (SOP, 16-Leads, Body 5.1x4.5mm, Pitch 0.65mm)
pins: 1 Y0 (io), 2 Y2 (io), 3 Y (io), 4 Y3 (io), 5 Y1 (io), 6 ~{EN} (in), 7 VEE (power), 8 GND (power), 9 B (in), 10 A (in), 11 X3 (io), 12 X0 (io), 13 X (io), 14 X1 (io), 15 X2 (io), 16 VCC (power)

## NLV74HC4053ADR2G
designator U?
Analog Multiplexer / Demultiplexer, High-Performance Silicon-Gate CMOS, 2 to 12 V, -55 to 125 degC, 16-Pin SOIC, Pb-Free, Tape and Reel; Manufacturer: On Semiconductor; PartNumber: NLV74HC4053ADR2G; Icc Max (uA): 80; VCC Max (V): 12; VCC Min (V): 2; DatasheetVersion: Rev. 6; PackageVersion: Rev. K, 12/2006; PackageReference: SOIC-16-751B-05; PackageDescription: 16-Pin Small Outline Integrated Circuit, Body 9.9 x 3.9 mm, Pitch 1.27 mm; Supplier 1: Digi-Key; Supplier Part Number 1: NLV74HC4053ADR2G-ND; Supplier 2: Mouser; Supplier Part Number 2: 863-NLV74HC4053ADR2G; Packing: Tape and Reel; RoHS: TRUE; Mounting Technology: Surface Mount; ComponentLink1Description: Manufacturer URL; ComponentLink1URL: http://www.onsemi.com/; ComponentLink2Description: Datasheet; ComponentLink2URL: http://www.onsemi.com/pub_link/Collateral/MC74HC4051A-D.PDF; ComponentLink3Description: Package Specification; ComponentLink3URL: http://www.onsemi.com/pub_link/Collateral/751B-05.PDF
footprint ONSC-SOIC-16-751B-05_V (SOIC, 16-Leads, Body 10x4mm, Pitch 1.27mm)
pins: 1 Y1 (io), 2 Y0 (io), 3 Z1 (io), 4 Z (io), 5 Z0 (io), 6 ~{EN} (in), 7 VEE (power), 8 GND (power), 9 C (in), 10 B (in), 11 A (in), 12 X0 (io), 13 X1 (io), 14 X (io), 15 Y (io), 16 VCC (power)

## NLV74HC4053ADWR2G
designator U?
Analog Multiplexer / Demultiplexer, High-Performance Silicon-Gate CMOS, 2 to 12 V, -55 to 125 degC, 16-Pin SOIC, Pb-Free, Tape and Reel; Manufacturer: On Semiconductor; PartNumber: NLV74HC4053ADWR2G; Icc Max (uA): 80; VCC Max (V): 12; VCC Min (V): 2; DatasheetVersion: Rev. 6; PackageVersion: Rev. D, 02/2013; PackageReference: SOIC-16-751G-03; PackageDescription: 16-Pin Small Outline Integrated Circuit, Body 10.3 x 7.5 mm, Pitch 1.27 mm; Packing: Tape and Reel; RoHS: TRUE; Mounting Technology: Surface Mount; ComponentLink1Description: Manufacturer URL; ComponentLink1URL: http://www.onsemi.com/; ComponentLink2Description: Datasheet; ComponentLink2URL: http://www.onsemi.com/pub_link/Collateral/MC74HC4051A-D.PDF; ComponentLink3Description: Package Specification; ComponentLink3URL: http://www.onsemi.com/pub_link/Collateral/751G-03.PDF
footprint ONSC-SOIC-16-751G-03_V (SOIC, 16-Leads, Body 10.45x7.6mm, Pitch 1.27mm)
pins: 1 Y1 (io), 2 Y0 (io), 3 Z1 (io), 4 Z (io), 5 Z0 (io), 6 ~{EN} (in), 7 VEE (power), 8 GND (power), 9 C (in), 10 B (in), 11 A (in), 12 X0 (io), 13 X1 (io), 14 X (io), 15 Y (io), 16 VCC (power)

## NLV74HC4066ADR2G
designator U?
Quad Analog Switch / Multiplexer / Demultiplexer, High-Performance Silicon-Gate CMOS, 2 to 12 V, -55 to 125 degC, 14-Pin SOIC, Pb-Free, Tape and Reel; Manufacturer: On Semiconductor; PartNumber: NLV74HC4066ADR2G; Icc Max (uA): 160; VCC Max (V): 12; VCC Min (V): 2; DatasheetVersion: Rev. 12; PackageVersion: Rev. K, 05/2011; PackageReference: SOIC-14-751A-03; PackageDescription: 14-Pin Small Outline Integrated Circuit, Body 8.65 x 3.9 mm, Pitch 1.27 mm; Supplier 1: Digi-Key; Supplier Part Number 1: NLV74HC4066ADR2G-ND; Supplier 2: Mouser; Supplier Part Number 2: 863-NLV74HC4066ADR2G; Packing: Tape and Reel; RoHS: TRUE; Mounting Technology: Surface Mount; ComponentLink1Description: Manufacturer URL; ComponentLink1URL: http://www.onsemi.com/; ComponentLink2Description: Datasheet; ComponentLink2URL: http://www.onsemi.com/pub_link/Collateral/MC74HC4066A-D.PDF; ComponentLink3Description: Package Specification; ComponentLink3URL: http://www.onsemi.com/pub_link/Collateral/751A-03.PDF
footprint ONSC-SOIC-14-751A-03_V (SOIC, 14-Leads, Body 8.75x4mm, Pitch 1.27mm)
pins: 1 XA (io), 2 YA (io), 3 YB (io), 4 XB (io), 5 B ON/OFF CTRL (in), 6 C ON/OFF CTRL (in), 7 GND (power), 8 XC (io), 9 YC (io), 10 YD (io), 11 XD (io), 12 D ON/OFF CTRL (in), 13 A ON/OFF CTRL (in), 14 VCC (power)

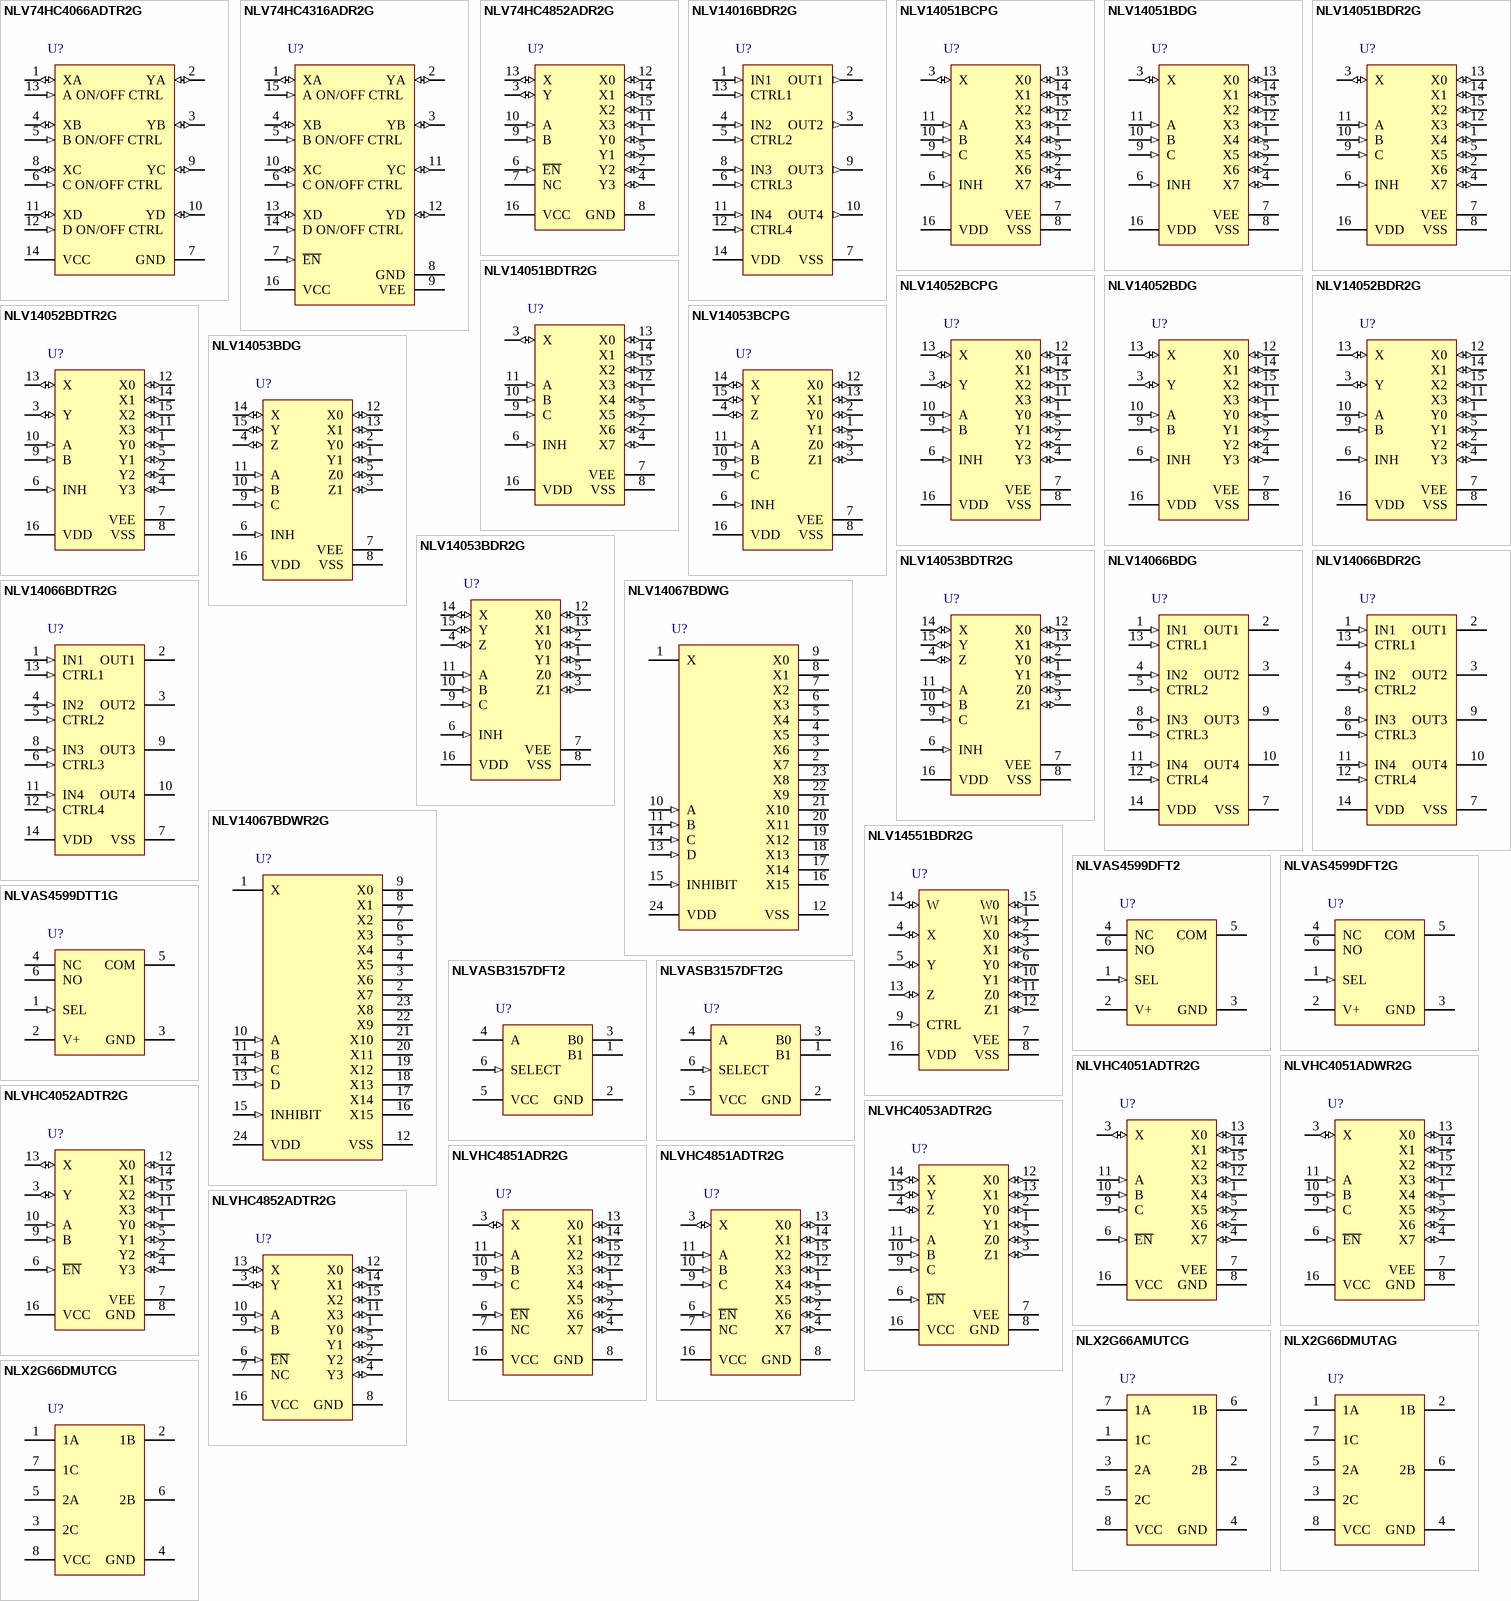
[diagram p5: symbols NLV74HC4066ADTR2G to NLX2G66DMUTCG]

## NLV74HC4066ADTR2G
designator U?
Quad Analog Switch / Multiplexer / Demultiplexer, High-Performance Silicon-Gate CMOS, 2 to 12 V, -55 to 125 degC, 14-Pin TSSOP, Pb-Free, Tape and Reel; Manufacturer: On Semiconductor; PartNumber: NLV74HC4066ADTR2G; Icc Max (uA): 160; VCC Max (V): 12; VCC Min (V): 2; DatasheetVersion: Rev. 12; PackageVersion: Rev. B, 10/2006; PackageReference: TSSOP-14-948G-01; PackageDescription: 14-Pin Small Outline Package, Body 5 x 4.4 mm, Pitch 0.65 mm; Packing: Tape and Reel; RoHS: TRUE; Mounting Technology: Surface Mount; ComponentLink1Description: Manufacturer URL; ComponentLink1URL: http://www.onsemi.com/; ComponentLink2Description: Datasheet; ComponentLink2URL: http://www.onsemi.com/pub_link/Collateral/MC74HC4066A-D.PDF; ComponentLink3Description: Package Specification; ComponentLink3URL: http://www.onsemi.com/pub_link/Collateral/948G-01.PDF
footprint ONSC-TSSOP-14-948G-01_V (SOP, 14-Leads, Body 5.1x4.5mm, Pitch 0.65mm)
pins: 1 XA (io), 2 YA (io), 3 YB (io), 4 XB (io), 5 B ON/OFF CTRL (in), 6 C ON/OFF CTRL (in), 7 GND (power), 8 XC (io), 9 YC (io), 10 YD (io), 11 XD (io), 12 D ON/OFF CTRL (in), 13 A ON/OFF CTRL (in), 14 VCC (power)

## NLV74HC4316ADR2G
designator U?
Quad Analog Switch / Multiplexer / Demultiplexer with Separate Analog and Digital Power Supplies, High-Performance Silicon-Gate CMOS, 2 to 6 V, -55 to 125 degC, 16-Pin SOIC, Pb-Free, Tape and Reel; Manufacturer: On Semiconductor; PartNumber: NLV74HC4316ADR2G; Icc Max (uA): 160; VCC Max (V): 6; VCC Min (V): 2; DatasheetVersion: Rev. 8; PackageVersion: Rev. K, 12/2006; PackageReference: SOIC-16-751B-05; PackageDescription: 16-Pin Small Outline Integrated Circuit, Body 9.9 x 3.9 mm, Pitch 1.27 mm; Packing: Tape and Reel; RoHS: TRUE; Mounting Technology: Surface Mount; ComponentLink1Description: Manufacturer URL; ComponentLink1URL: http://www.onsemi.com/; ComponentLink2Description: Datasheet; ComponentLink2URL: http://www.onsemi.com/pub_link/Collateral/MC74HC4316A-D.PDF; ComponentLink3Description: Package Specification; ComponentLink3URL: http://www.onsemi.com/pub_link/Collateral/751B-05.PDF
footprint ONSC-SOIC-16-751B-05_V (SOIC, 16-Leads, Body 10x4mm, Pitch 1.27mm)
pins: 1 XA (io), 2 YA (io), 3 YB (io), 4 XB (io), 5 B ON/OFF CTRL (in), 6 C ON/OFF CTRL (in), 7 ~{EN} (in), 8 GND (power), 9 VEE (power), 10 XC (io), 11 YC (io), 12 YD (io), 13 XD (io), 14 D ON/OFF CTRL (in), 15 A ON/OFF CTRL (in), 16 VCC (power)

## NLV74HC4852ADR2G
designator U?
Analog Multiplexer / Demultiplexer with Injection Current Effect Control, Automotive Customized, 2 to 6 V, -55 to 125 degC, 16-Pin SOIC, Pb-Free, Tape and Reel; Manufacturer: On Semiconductor; PartNumber: NLV74HC4852ADR2G; Icc Max (uA): 40; VCC Max (V): 6; VCC Min (V): 2; DatasheetVersion: Rev. 14; PackageVersion: Rev. K, 12/2006; PackageReference: SOIC-16-751B-05; PackageDescription: 16-Pin Small Outline Integrated Circuit, Body 9.9 x 3.9 mm, Pitch 1.27 mm; Supplier 1: Digi-Key; Supplier Part Number 1: NLV74HC4852ADR2G-ND; Supplier 2: Mouser; Supplier Part Number 2: 863-NLV74HC4852ADR2G; Packing: Tape and Reel; RoHS: TRUE; Mounting Technology: Surface Mount; ComponentLink1Description: Manufacturer URL; ComponentLink1URL: http://www.onsemi.com/; ComponentLink2Description: Datasheet; ComponentLink2URL: http://www.onsemi.com/pub_link/Collateral/MC74HC4851A-D.PDF; ComponentLink3Description: Package Specification; ComponentLink3URL: http://www.onsemi.com/pub_link/Collateral/751B-05.PDF
footprint ONSC-SOIC-16-751B-05_V (SOIC, 16-Leads, Body 10x4mm, Pitch 1.27mm)
pins: 1 Y0 (io), 2 Y2 (io), 3 Y (io), 4 Y3 (io), 5 Y1 (io), 6 ~{EN} (in), 7 NC, 8 GND (power), 9 B (in), 10 A (in), 11 X3 (io), 12 X0 (io), 13 X (io), 14 X1 (io), 15 X2 (io), 16 VCC (power)

## NLV14016BDR2G
designator U?
Quad Analog Switch / Quad Multiplexer, 3 to 18 V, -55 to 125 degC, 14-Pin SOIC, Pb-Free, Tape and Reel; Manufacturer: On Semiconductor; PartNumber: NLV14016BDR2G; Icc Max (uA): 30; VCC Max (V): 18; VCC Min (V): 3; DatasheetVersion: Rev. 10; PackageVersion: Rev. K, 05/2011; PackageReference: SOIC-14-751A-03; PackageDescription: 14-Pin Small Outline Integrated Circuit, Body 8.65 x 3.9 mm, Pitch 1.27 mm; Supplier 1: Digi-Key; Supplier Part Number 1: NLV14016BDR2G-ND; Supplier 2: Mouser; Supplier Part Number 2: 863-NLV14016BDR2G; Packing: Tape and Reel; RoHS: TRUE; Mounting Technology: Surface Mount; ComponentLink1Description: Manufacturer URL; ComponentLink1URL: http://www.onsemi.com/; ComponentLink2Description: Datasheet; ComponentLink2URL: http://www.onsemi.com/pub_link/Collateral/MC14016B-D.PDF; ComponentLink3Description: Package Specification; ComponentLink3URL: http://www.onsemi.com/pub_link/Collateral/751A-03.PDF
footprint ONSC-SOIC-14-751A-03_V (SOIC, 14-Leads, Body 8.75x4mm, Pitch 1.27mm)
pins: 1 IN1 (in), 2 OUT1 (out), 3 OUT2 (out), 4 IN2 (in), 5 CTRL2 (in), 6 CTRL3 (in), 7 VSS (power), 8 IN3 (in), 9 OUT3 (out), 10 OUT4 (out), 11 IN4 (in), 12 CTRL4 (in), 13 CTRL1 (in), 14 VDD (power)

## NLV14051BCPG
designator U?
Analog Multiplexer / Demultiplexer, 3 to 18 V, -55 to 125 degC, 16-Pin PDIP, Pb-Free, Tube; Manufacturer: On Semiconductor; PartNumber: NLV14051BCPG; Icc Max (uA): 600; VCC Max (V): 18; VCC Min (V): 3; DatasheetVersion: Rev. 13; PackageVersion: Rev. T, 05/2004; PackageReference: PDIP-16-648-08_T; PackageDescription: 16-Pin Plastic Dual-In Line Package, Body 19.175 x 6.6 mm, Pitch 2.54 mm; Supplier 1: Mouser; Supplier Part Number 1: N/A; Packing: Tube; RoHS: TRUE; Mounting Technology: Through Hole; ComponentLink1Description: Manufacturer URL; ComponentLink1URL: http://www.onsemi.com/; ComponentLink2Description: Datasheet; ComponentLink2URL: http://www.onsemi.com/pub_link/Collateral/MC14051B-D.PDF; ComponentLink3Description: Package Specification; ComponentLink3URL: http://www.onsemi.com/pub_link/Collateral/MC14028B-D.PDF
footprint ONSC-PDIP-16-648-08_T (DIP, 16-Leads, Body 19.55x6.85mm, Pitch 2.54mm)
pins: 1 X4 (io), 2 X6 (io), 3 X (io), 4 X7 (io), 5 X5 (io), 6 INH (in), 7 VEE (power), 8 VSS (power), 9 C (in), 10 B (in), 11 A (in), 12 X3 (io), 13 X0 (io), 14 X1 (io), 15 X2 (io), 16 VDD (power)

## NLV14051BDG
designator U?
Analog Multiplexer / Demultiplexer, 3 to 18 V, -55 to 125 degC, 16-Pin SOIC, Pb-Free, Tube; Manufacturer: On Semiconductor; PartNumber: NLV14051BDG; Icc Max (uA): 600; VCC Max (V): 18; VCC Min (V): 3; DatasheetVersion: Rev. 13; PackageVersion: Rev. K, 12/2006; PackageReference: SOIC-16-751B-05; PackageDescription: 16-Pin Small Outline Integrated Circuit, Body 9.9 x 3.9 mm, Pitch 1.27 mm; Supplier 1: Digi-Key; Supplier Part Number 1: NLV14051BDG-ND; Supplier 2: Mouser; Supplier Part Number 2: 863-NLV14051BDG; Packing: Tube; RoHS: TRUE; Mounting Technology: Surface Mount; ComponentLink1Description: Manufacturer URL; ComponentLink1URL: http://www.onsemi.com/; ComponentLink2Description: Datasheet; ComponentLink2URL: http://www.onsemi.com/pub_link/Collateral/MC14051B-D.PDF; ComponentLink3Description: Package Specification; ComponentLink3URL: http://www.onsemi.com/pub_link/Collateral/751B-05.PDF
footprint ONSC-SOIC-16-751B-05_V (SOIC, 16-Leads, Body 10x4mm, Pitch 1.27mm)
pins: 1 X4 (io), 2 X6 (io), 3 X (io), 4 X7 (io), 5 X5 (io), 6 INH (in), 7 VEE (power), 8 VSS (power), 9 C (in), 10 B (in), 11 A (in), 12 X3 (io), 13 X0 (io), 14 X1 (io), 15 X2 (io), 16 VDD (power)

## NLV14051BDR2G
designator U?
Analog Multiplexer / Demultiplexer, 3 to 18 V, -55 to 125 degC, 16-Pin SOIC, Pb-Free, Tape and Reel; Manufacturer: On Semiconductor; PartNumber: NLV14051BDR2G; Icc Max (uA): 600; VCC Max (V): 18; VCC Min (V): 3; DatasheetVersion: Rev. 13; PackageVersion: Rev. K, 12/2006; PackageReference: SOIC-16-751B-05; PackageDescription: 16-Pin Small Outline Integrated Circuit, Body 9.9 x 3.9 mm, Pitch 1.27 mm; Supplier 1: Digi-Key; Supplier Part Number 1: NLV14051BDR2G-ND; Supplier 2: Mouser; Supplier Part Number 2: 863-NLV14051BDR2G; Packing: Tape and Reel; RoHS: TRUE; Mounting Technology: Surface Mount; ComponentLink1Description: Manufacturer URL; ComponentLink1URL: http://www.onsemi.com/; ComponentLink2Description: Datasheet; ComponentLink2URL: http://www.onsemi.com/pub_link/Collateral/MC14051B-D.PDF; ComponentLink3Description: Package Specification; ComponentLink3URL: http://www.onsemi.com/pub_link/Collateral/751B-05.PDF
footprint ONSC-SOIC-16-751B-05_V (SOIC, 16-Leads, Body 10x4mm, Pitch 1.27mm)
pins: 1 X4 (io), 2 X6 (io), 3 X (io), 4 X7 (io), 5 X5 (io), 6 INH (in), 7 VEE (power), 8 VSS (power), 9 C (in), 10 B (in), 11 A (in), 12 X3 (io), 13 X0 (io), 14 X1 (io), 15 X2 (io), 16 VDD (power)

## NLV14051BDTR2G
designator U?
Analog Multiplexer / Demultiplexer, 3 to 18 V, -55 to 125 degC, 16-Pin TSSOP, Pb-Free, Tape and Reel; Manufacturer: On Semiconductor; PartNumber: NLV14051BDTR2G; Icc Max (uA): 600; VCC Max (V): 18; VCC Min (V): 3; DatasheetVersion: Rev. 13; PackageVersion: Rev. B, 10/2006; PackageReference: TSSOP-16-948F-01; PackageDescription: 16-Pin Small Outline Package, Body 5 x 4.4 mm, Pitch 0.65 mm; Supplier 1: Digi-Key; Supplier Part Number 1: NLV14051BDTR2G-ND; Supplier 2: Mouser; Supplier Part Number 2: 863-NLV14051BDTR2G; Packing: Tape and Reel; RoHS: TRUE; Mounting Technology: Surface Mount; ComponentLink1Description: Manufacturer URL; ComponentLink1URL: http://www.onsemi.com/; ComponentLink2Description: Datasheet; ComponentLink2URL: http://www.onsemi.com/pub_link/Collateral/MC14051B-D.PDF; ComponentLink3Description: Package Specification; ComponentLink3URL: http://www.onsemi.com/pub_link/Collateral/948F-01.PDF
footprint ONSC-TSSOP-16-948F-01_V (SOP, 16-Leads, Body 5.1x4.5mm, Pitch 0.65mm)
pins: 1 X4 (io), 2 X6 (io), 3 X (io), 4 X7 (io), 5 X5 (io), 6 INH (in), 7 VEE (power), 8 VSS (power), 9 C (in), 10 B (in), 11 A (in), 12 X3 (io), 13 X0 (io), 14 X1 (io), 15 X2 (io), 16 VDD (power)

## NLV14052BCPG
designator U?
Analog Multiplexer / Demultiplexer, 3 to 18 V, -55 to 125 degC, 16-Pin PDIP, Pb-Free, Tube; Manufacturer: On Semiconductor; PartNumber: NLV14052BCPG; Icc Max (uA): 600; VCC Max (V): 18; VCC Min (V): 3; DatasheetVersion: Rev. 13; PackageVersion: Rev. T, 05/2004; PackageReference: PDIP-16-648-08_T; PackageDescription: 16-Pin Plastic Dual-In Line Package, Body 19.175 x 6.6 mm, Pitch 2.54 mm; Supplier 1: Mouser; Supplier Part Number 1: N/A; Packing: Tube; RoHS: TRUE; Mounting Technology: Through Hole; ComponentLink1Description: Manufacturer URL; ComponentLink1URL: http://www.onsemi.com/; ComponentLink2Description: Datasheet; ComponentLink2URL: http://www.onsemi.com/pub_link/Collateral/MC14051B-D.PDF; ComponentLink3Description: Package Specification; ComponentLink3URL: http://www.onsemi.com/pub_link/Collateral/MC14028B-D.PDF
footprint ONSC-PDIP-16-648-08_T (DIP, 16-Leads, Body 19.55x6.85mm, Pitch 2.54mm)
pins: 1 Y0 (io), 2 Y2 (io), 3 Y (io), 4 Y3 (io), 5 Y1 (io), 6 INH (in), 7 VEE (power), 8 VSS (power), 9 B (in), 10 A (in), 11 X3 (io), 12 X0 (io), 13 X (io), 14 X1 (io), 15 X2 (io), 16 VDD (power)

## NLV14052BDG
designator U?
Analog Multiplexer / Demultiplexer, 3 to 18 V, -55 to 125 degC, 16-Pin SOIC, Pb-Free, Tube; Manufacturer: On Semiconductor; PartNumber: NLV14052BDG; Icc Max (uA): 600; VCC Max (V): 18; VCC Min (V): 3; DatasheetVersion: Rev. 13; PackageVersion: Rev. K, 12/2006; PackageReference: SOIC-16-751B-05; PackageDescription: 16-Pin Small Outline Integrated Circuit, Body 9.9 x 3.9 mm, Pitch 1.27 mm; Supplier 1: Digi-Key; Supplier Part Number 1: NLV14052BDG-ND; Supplier 2: Mouser; Supplier Part Number 2: 863-NLV14052BDG; Packing: Tube; RoHS: TRUE; Mounting Technology: Surface Mount; ComponentLink1Description: Manufacturer URL; ComponentLink1URL: http://www.onsemi.com/; ComponentLink2Description: Datasheet; ComponentLink2URL: http://www.onsemi.com/pub_link/Collateral/MC14051B-D.PDF; ComponentLink3Description: Package Specification; ComponentLink3URL: http://www.onsemi.com/pub_link/Collateral/751B-05.PDF
footprint ONSC-SOIC-16-751B-05_V (SOIC, 16-Leads, Body 10x4mm, Pitch 1.27mm)
pins: 1 Y0 (io), 2 Y2 (io), 3 Y (io), 4 Y3 (io), 5 Y1 (io), 6 INH (in), 7 VEE (power), 8 VSS (power), 9 B (in), 10 A (in), 11 X3 (io), 12 X0 (io), 13 X (io), 14 X1 (io), 15 X2 (io), 16 VDD (power)